# EAGLE library part 74HCT4067D,112 (library pimoroni-ics)
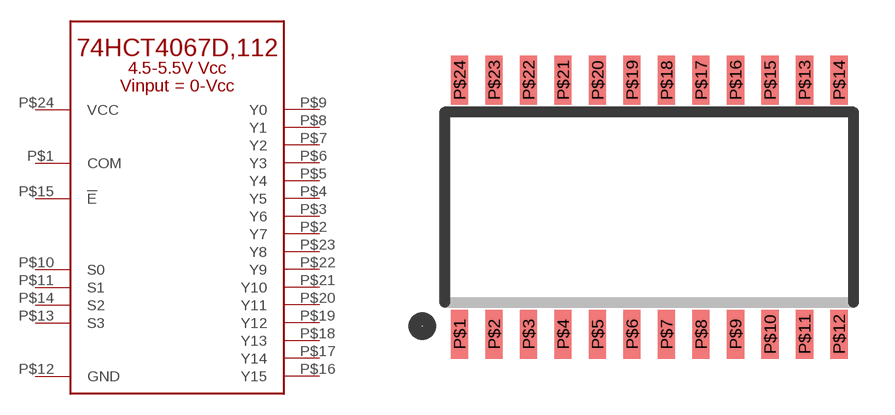
[diagram p125: symbol with the pads of SO24-300MIL; footprint SO24-300MIL]

Designator prefix U

## 74HCT4067D,112  [SO24-300MIL]
P$1  COM
P$2  Y7
P$3  Y6
P$4  Y5
P$5  Y4
P$6  Y3
P$7  Y2
P$8  Y1
P$9  Y0
P$10  S0
P$11  S1
P$12  GND
P$13  S3
P$14  S2
P$15  !E
P$16  Y15
P$17  Y14
P$18  Y13
P$19  Y12
P$20  Y11
P$21  Y10
P$22  Y9
P$23  Y8
P$24  VCC

## Footprint SO24-300MIL (pad centres in mm)
smd 0.635 x 1.8: P$1 -6.985,-4.68; P$2 -5.715,-4.68; P$3 -4.445,-4.68; P$4 -3.175,-4.68; P$5 -1.905,-4.68; P$6 -0.635,-4.68; P$7 0.635,-4.68; P$8 1.905,-4.68; P$9 3.175,-4.68; P$10 4.445,-4.68; P$11 5.715,-4.68; P$12 6.985,-4.68; P$13 5.715,4.68; P$14 6.985,4.68; P$15 4.445,4.68; P$16 3.175,4.68; P$17 1.905,4.68; P$18 0.635,4.68; P$19 -0.635,4.68; P$20 -1.905,4.68; P$21 -3.175,4.68; P$22 -4.445,4.68; P$23 -5.715,4.68; P$24 -6.985,4.68